# Altium footprint library MC34063A.PcbLib: 2 footprints
Each footprint in its own frame and in the unit in brackets; x right, y up, seen from the top. Pads: shape width x height; smd on the part's side, far side on the other; paste and mask are expansions set on the pad; w line width, h text height; cw(c..) or ccw(c..) is an arc to the next point about the centre after c.
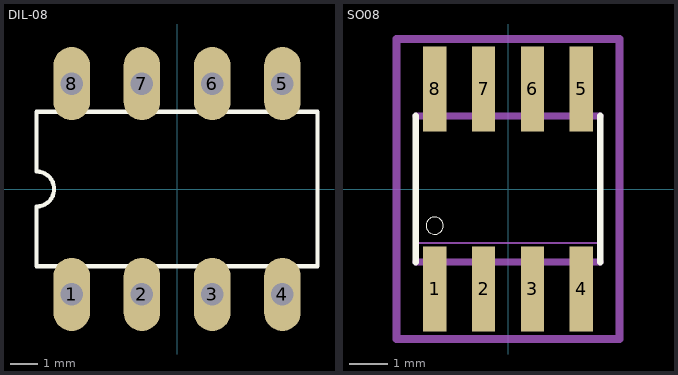
[diagram p0: the footprints below, top view; thin cyan lines are the x and y axes]

## DIL-08 [mil]
pads (8):
  oval 52x104 hole 32: 1(-150,-150) 2(-50,-150) 3(50,-150) 4(150,-150) 5(150,150) 6(50,150) 7(-50,150) 8(-150,150)
Top Overlay:
  lines w6: -200,-110 200,-110 200,110 -200,110 -200,25 cw(c-200,0) -200,-25 -200,-110

## SO08 [mm]
pads (8):
  rect 0.6x2.2 smd: 1(-1.905,-2.6) 2(-0.635,-2.6) 3(0.635,-2.6) 4(1.905,-2.6) 5(1.905,2.6) 6(0.635,2.6) 7(-0.635,2.6) 8(-1.905,2.6)
Top Overlay:
  circle w0: c-1.905,-0.953 r0.225
  lines w0.178: -2.4,-1.9 -2.4,1.9 ; 2.4,-1.9 2.4,1.9
Mechanical 4:
  region: -2.154,3.1 -1.66,3.1 -1.66,2.003 -2.154,2.003
  region: -0.88,3.1 -0.39,3.1 -0.39,2.001 -0.88,2.001
  region: 0.39,3.1 0.88,3.1 0.88,2.002 0.39,2.002
  region: 1.661,3.1 2.15,3.1 2.15,2.001 1.661,2.001
  region: 1.66,-2 2.15,-2 2.15,-3.101 1.66,-3.101
  region: 0.39,-2 0.88,-2 0.88,-3.1 0.39,-3.1
  region: -0.881,-2 -0.39,-2 -0.39,-3.102 -0.881,-3.102
  region: -2.152,-2 -1.66,-2 -1.66,-3.103 -2.152,-3.103
  region: -2.154,3.1 -1.66,3.1 -1.66,2.003 -2.154,2.003
  region: -0.88,3.1 -0.39,3.1 -0.39,2.001 -0.88,2.001
  region: 0.39,3.1 0.88,3.1 0.88,2.002 0.39,2.002
  region: 1.661,3.1 2.15,3.1 2.15,2.001 1.661,2.001
  region: 1.66,-2 2.15,-2 2.15,-3.101 1.66,-3.101
  region: 0.39,-2 0.88,-2 0.88,-3.1 0.39,-3.1
  region: -0.881,-2 -0.39,-2 -0.39,-3.102 -0.881,-3.102
  region: -2.152,-2 -1.66,-2 -1.66,-3.103 -2.152,-3.103
  lines w0.051: -2.4,-1.4 2.4,-1.4 -2.4,-1.4
  lines w0.178: -2.4,-1.9 2.4,-1.9 -2.4,-1.9 ; -2.4,1.9 2.4,1.9 -2.4,1.9
Mechanical 16:
  lines w0.2: -2.9,-3.9 -2.9,3.9 2.9,3.9 2.9,-3.9 -2.9,-3.9